# EAGLE library part AK5572EN (library AK5572EN)
IC ADC/AUDIO 32BIT 768K 48QFN Source: Datasheet <https://www.akm.com/akm/en/file/datasheet/AK5572EN.pdf>
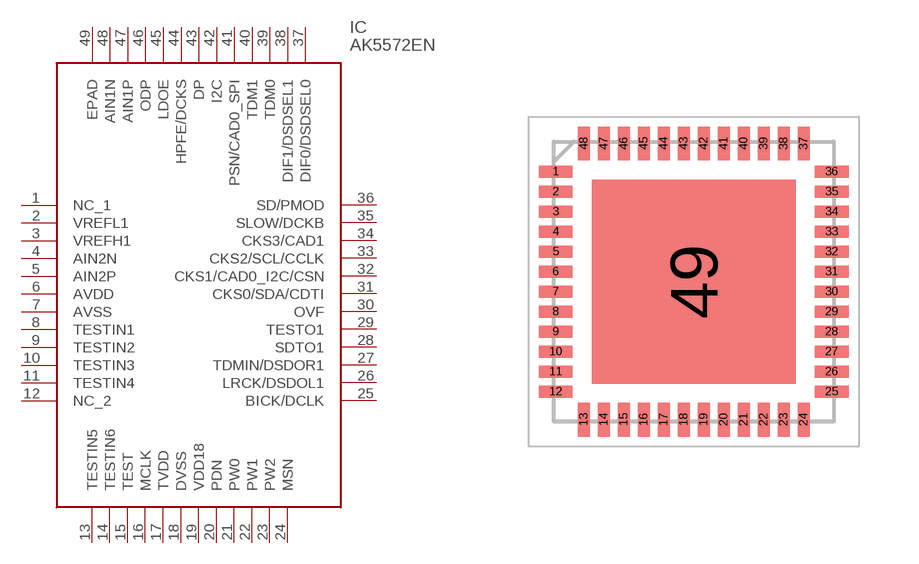
[diagram p0: symbol with the pads of QFN50P700X700X100-49N; footprint QFN50P700X700X100-49N]

Designator prefix IC

## AK5572EN (Arrow_Part_Number: AK5572EN; Arrow_Price-Stock: https://www.arrow.com/en/products/ak5572en/asahi-kasei-microdevices-corporation?utm_currency=USD&region=nac; Description: IC ADC/AUDIO 32BIT 768K 48QFN; Height: 1mm; Manufacturer_Name: Asahi Kasei Microdevices; Manufacturer_Part_Number: AK5572EN; Mouser_Part_Number: 412-AK5572EN; Mouser_Price-Stock: https://www.mouser.co.uk/ProductDetail/Asahi-Kasei-Microdevices/AK5572EN?qs=vvQtp7zwQdN5nUCcqQXzfA%3D%3D)  [QFN50P700X700X100-49N]
1  NC_1
2  VREFL1
3  VREFH1
4  AIN2N
5  AIN2P
6  AVDD
7  AVSS
8  TESTIN1
9  TESTIN2
10  TESTIN3
11  TESTIN4
12  NC_2
13  TESTIN5
14  TESTIN6
15  TEST
16  MCLK
17  TVDD
18  DVSS
19  VDD18
20  PDN
21  PW0
22  PW1
23  PW2
24  MSN
25  BICK/DCLK
26  LRCK/DSDOL1
27  TDMIN/DSDOR1
28  SDTO1
29  TESTO1
30  OVF
31  CKS0/SDA/CDTI
32  CKS1/CAD0_I2C/CSN
33  CKS2/SCL/CCLK
34  CKS3/CAD1
35  SLOW/DCKB
36  SD/PMOD
37  DIF0/DSDSEL0
38  DIF1/DSDSEL1
39  TDM0
40  TDM1
41  PSN/CAD0_SPI
42  I2C
43  DP
44  HPFE/DCKS
45  LDOE
46  ODP
47  AIN1P
48  AIN1N
49  EPAD

## Footprint QFN50P700X700X100-49N (pad centres in mm)
qfn48
smd 0.85 x 0.3: 1 -3.45,2.75; 2 -3.45,2.25; 3 -3.45,1.75; 4 -3.45,1.25; 5 -3.45,0.75; 6 -3.45,0.25; 7 -3.45,-0.25; 8 -3.45,-0.75; 9 -3.45,-1.25; 10 -3.45,-1.75; 11 -3.45,-2.25; 12 -3.45,-2.75; 25 3.45,-2.75; 26 3.45,-2.25; 27 3.45,-1.75; 28 3.45,-1.25; 29 3.45,-0.75; 30 3.45,-0.25; 31 3.45,0.25; 32 3.45,0.75; 33 3.45,1.25; 34 3.45,1.75; 35 3.45,2.25; 36 3.45,2.75
smd 0.3 x 0.85: 13 -2.75,-3.45; 14 -2.25,-3.45; 15 -1.75,-3.45; 16 -1.25,-3.45; 17 -0.75,-3.45; 18 -0.25,-3.45; 19 0.25,-3.45; 20 0.75,-3.45; 21 1.25,-3.45; 22 1.75,-3.45; 23 2.25,-3.45; 24 2.75,-3.45; 37 2.75,3.45; 38 2.25,3.45; 39 1.75,3.45; 40 1.25,3.45; 41 0.75,3.45; 42 0.25,3.45; 43 -0.25,3.45; 44 -0.75,3.45; 45 -1.25,3.45; 46 -1.75,3.45; 47 -2.25,3.45; 48 -2.75,3.45
smd 5.1 x 5.1: 49 0,0